# EAGLE library part CMU-ARTFAB_DW01A (library piezo-preamp-tickler_V2-RevG)
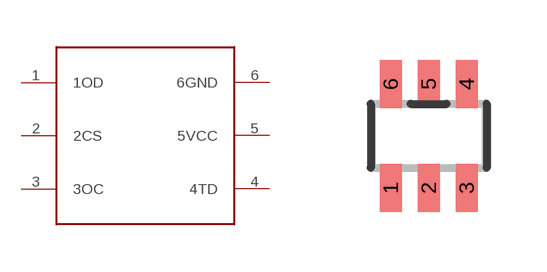
[diagram p0: symbol with the pads of CMU-ARTFAB_SOT23-6; footprint CMU-ARTFAB_SOT23-6]

Designator prefix -

## CMU-ARTFAB_DW01A  [CMU-ARTFAB_SOT23-6]
1  1OD
2  2CS
3  3OC
4  4TD
5  5VCC
6  6GND

## Footprint CMU-ARTFAB_SOT23-6 (pad centres in mm)
Small Outline Transistor - 5 Pin
smd 0.55 x 1.2: 1 -0.95,-1.3; 2 0,-1.3; 3 0.95,-1.3; 4 0.95,1.3; 5 0,1.303; 6 -0.95,1.3